# EAGLE library part AD9850-MOD (library yb-library)
AD9850-DDS Modul (Made in China)
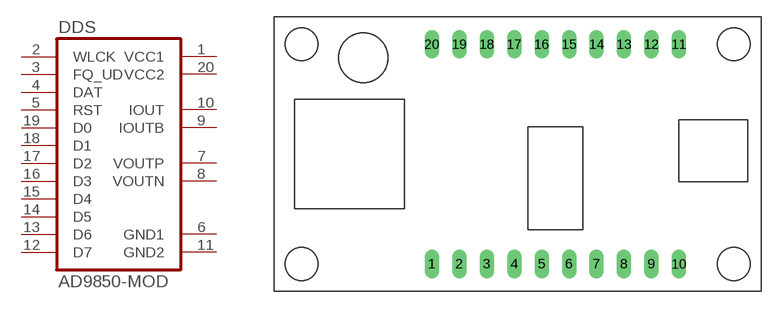
[diagram p5: symbol with the pads of AD9850-MOD; footprint AD9850-MOD]

Designator prefix DDS

## AD9850-MOD  [AD9850-MOD]
1  VCC1  pwr
2  WLCK  in
3  FQ_UD  in
4  DAT  in
5  RST  in
6  GND1  pwr
7  VOUTP  out
8  VOUTN  out
9  IOUTB  out
10  IOUT  out
11  GND2  pwr
12  D7  in
13  D6  in
14  D5  in
15  D4  in
16  D3  in
17  D2  in
18  D1  in
19  D0  in
20  VCC2  pwr

## Footprint AD9850-MOD (pad centres in mm)
drill 0.813 long: 1 -7.62,-10.16; 2 -5.08,-10.16; 3 -2.54,-10.16; 4 0,-10.16; 5 2.54,-10.16; 6 5.08,-10.16; 7 7.62,-10.16; 8 10.16,-10.16; 9 12.7,-10.16; 10 15.24,-10.16; 11 15.24,10.16; 12 12.7,10.16; 13 10.16,10.16; 14 7.62,10.16; 15 5.08,10.16; 16 2.54,10.16; 17 0,10.16; 18 -2.54,10.16; 19 -5.08,10.16; 20 -7.62,10.16